# Altium schematic symbol library WE-PD2A_4532.SchLib: 20 symbols
Pins are listed as number, name and electrical type; pins without a type are passive.

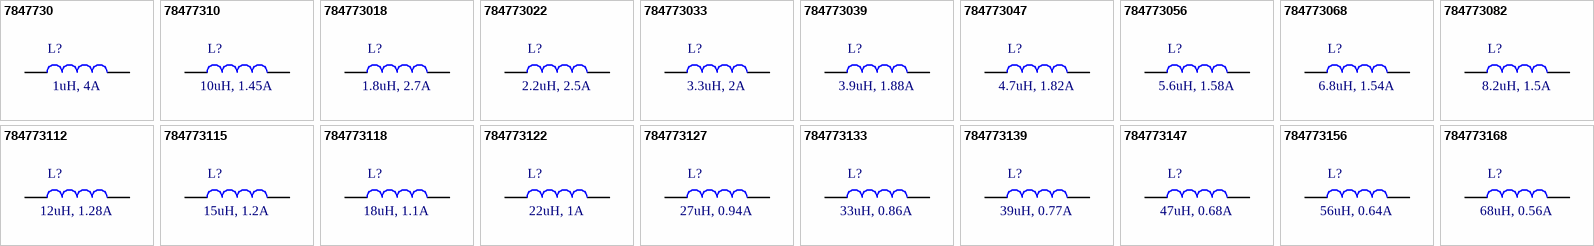
[diagram p0: symbols 7847730 to 784773168]

## 7847730
designator L?, comment 1uH, 4A
WE-PD2A SMT Power Inductor, size 4532, 1uH, 4A; Manufacturer Part Number: 7847730; Manufacturer: Wurth Elektronik; DC Resistance max.: 0.049Ohm; Saturation Current: 5.72A; Self Resonant Frequency: 110MHz; DC Resistance typ.: 0.014Ohm; Rated Voltage: 80VDC; ComponentLink1Description: Manufacturer; ComponentLink1URL: http://www.we-online.de; ComponentLink2Description: Datasheet; ComponentLink2URL: https://www.we-online.com/catalog/datasheet/7847730.pdf; Published Date: May 2020; Rated Current: 4A; Inductance: 1uH; Operating Temperature: -40 to +125degC; Mounting Technology: SMT; Packaging: Tape and Reel; Size: 4532; Supplier 2 Name: Digi-Key; Supplier 2 SN: 732-6803-2-ND; Supplier 2 URL: https://www.digikey.com/en/products/detail/w%C3%BCrth-elektronik/7847730/5168772; Supplier 1 Name: Mouser; Supplier 1 SN: 710-7847730; Supplier 1 URL: https://www.mouser.vn/ProductDetail/Wurth-Elektronik/7847730?qs=sBf%2Fb4nBSlde5F9DDjxYmQ%3D%3D; Supplier 3 Name: thegioiic; Supplier 3 SN: N/A; Supplier 3 URL: https://www.thegioiic.com/cuon-cam-dan-smd-cd43-4532-1r0-1uh-2-7a; Value: 1uH, 4A
footprint WE-PD2A_4532
pins: 1, 2

## 78477310
designator L?, comment 10uH, 1.45A
WE-PD2A SMT Power Inductor, size 4532, 10uH, 1.45A; Manufacturer Part Number: 78477310; Manufacturer: Wurth Elektronik; DC Resistance max.: 0.182Ohm; Saturation Current: 1.74A; Self Resonant Frequency: 30MHz; DC Resistance typ.: 0.118Ohm; Rated Voltage: 80VDC; ComponentLink1Description: Manufacturer; ComponentLink1URL: http://www.we-online.de; ComponentLink2Description: Datasheet; ComponentLink2URL: https://www.we-online.com/catalog/datasheet/78477310.pdf; Published Date: May 2020; Rated Current: 1.45A; Inductance: 10uH; Operating Temperature: -40 to +125degC; Mounting Technology: SMT; Packaging: Tape and Reel; Size: 4532; Supplier 2 Name: Digi-Key; Supplier 2 SN: 732-6812-2-ND; Supplier 2 URL: https://www.digikey.com/en/products/detail/w%C3%BCrth-elektronik/78477310/5168778?s=N4IgTCBcDaIOwA4Asc4GYCMAGEBdAvkA; Supplier 1 Name: Mouser; Supplier 1 SN: 710-78477310; Supplier 1 URL: https://www.mouser.vn/ProductDetail/Wurth-Elektronik/78477310?qs=sBf%2Fb4nBSldyYvbSID7ftA%3D%3D; Supplier 3 Name: thegioiic; Supplier 3 SN: N/A; Supplier 3 URL: https://www.thegioiic.com/cuon-cam-dan-smd-cd43-4532-100-10uh-1-04a; Value: 10uH, 1.45A
footprint WE-PD2A_4532
pins: 1, 2

## 784773018
designator L?, comment 1.8uH, 2.7A
WE-PD2A SMT Power Inductor, size 4532, 1.8uH, 2.7A; Manufacturer Part Number: 784773018; Manufacturer: Wurth Elektronik; DC Resistance max.: 0.064Ohm; Saturation Current: 3.6A; Self Resonant Frequency: 85MHz; DC Resistance typ.: 0.028Ohm; Rated Voltage: 80VDC; ComponentLink1Description: Manufacturer; ComponentLink1URL: http://www.we-online.de; ComponentLink2Description: Datasheet; ComponentLink2URL: https://www.we-online.com/catalog/datasheet/784773018.pdf; Published Date: May 2020; Rated Current: 2.7A; Inductance: 1.8uH; Operating Temperature: -40 to +125degC; Mounting Technology: SMT; Packaging: Tape and Reel; Size: 4532; Supplier 2 Name: Digi-Key; Supplier 2 SN: 732-6804-2-ND; Supplier 2 URL: https://www.digikey.com/en/products/detail/w%C3%BCrth-elektronik/784773018/5168841?s=N4IgTCBcDaIOwA4Asc4GYAMBGBIC6AvkA; Supplier 1 Name: Mouser; Supplier 1 SN: 710-784773018; Supplier 1 URL: https://www.mouser.vn/ProductDetail/Wurth-Elektronik/784773018?qs=sBf%2Fb4nBSleQ5H1IVXBHSg%3D%3D; Supplier 3 Name: thegioiic; Supplier 3 SN: N/A; Supplier 3 URL: N/A; Value: 1.8uH, 2.7A
footprint WE-PD2A_4532
pins: 1, 2

## 784773022
designator L?, comment 2.2uH, 2.5A
WE-PD2A SMT Power Inductor, size 4532, 2.2uH, 2.5A; Manufacturer Part Number: 784773022; Manufacturer: Wurth Elektronik; DC Resistance max.: 0.071Ohm; Saturation Current: 3.38A; Self Resonant Frequency: 74MHz; DC Resistance typ.: 0.034Ohm; Rated Voltage: 80VDC; ComponentLink1Description: Manufacturer; ComponentLink1URL: http://www.we-online.de; ComponentLink2Description: Datasheet; ComponentLink2URL: https://www.we-online.com/catalog/datasheet/784773022.pdf; Published Date: May 2020; Rated Current: 2.5A; Inductance: 2.2uH; Operating Temperature: -40 to +125degC; Mounting Technology: SMT; Packaging: Tape and Reel; Size: 4532; Supplier 2 Name: Digi-Key; Supplier 2 SN: 732-6805-2-ND; Supplier 2 URL: https://www.digikey.com/en/products/detail/w%C3%BCrth-elektronik/784773022/5168842?s=N4IgTCBcDaIOwA4Asc4GYAMYIF0C%2BQA; Supplier 1 Name: Mouser; Supplier 1 SN: 710-784773022; Supplier 1 URL: https://www.mouser.vn/ProductDetail/Wurth-Elektronik/784773022?qs=sBf%2Fb4nBSlcBBrrMBQmuMg%3D%3D; Supplier 3 Name: thegioiic; Supplier 3 SN: N/A; Supplier 3 URL: https://www.thegioiic.com/cuon-cam-dan-smd-cd43-4532-2r2-2-2uh-2-25a; Value: 2.2uH, 2.5A
footprint WE-PD2A_4532
pins: 1, 2

## 784773033
designator L?, comment 3.3uH, 2A
WE-PD2A SMT Power Inductor, size 4532, 3.3uH, 2A; Manufacturer Part Number: 784773033; Manufacturer: Wurth Elektronik; DC Resistance max.: 0.086Ohm; Saturation Current: 2.88A; Self Resonant Frequency: 55MHz; DC Resistance typ.: 0.041Ohm; Rated Voltage: 80VDC; ComponentLink1Description: Manufacturer; ComponentLink1URL: http://www.we-online.de; ComponentLink2Description: Datasheet; ComponentLink2URL: https://www.we-online.com/catalog/datasheet/784773033.pdf; Published Date: May 2020; Rated Current: 2A; Inductance: 3.3uH; Operating Temperature: -40 to +125degC; Mounting Technology: SMT; Packaging: Tape and Reel; Size: 4532; Supplier 2 Name: Digi-Key; Supplier 2 SN: 732-6806-2-ND; Supplier 2 URL: https://www.digikey.com/en/products/detail/w%C3%BCrth-elektronik/784773033/5168843?s=N4IgTCBcDaIOwA4Asc4GYAMa0gLoF8g; Supplier 1 Name: Mouser; Supplier 1 SN: 710-784773033; Supplier 1 URL: https://www.mouser.vn/ProductDetail/Wurth-Elektronik/784773033?qs=sBf%2Fb4nBSlcLzNIjutVkew%3D%3D; Supplier 3 Name: thegioiic; Supplier 3 SN: N/A; Supplier 3 URL: https://www.thegioiic.com/cuon-cam-dan-smd-cd43-4532-3r3-3-3uh-2a; Value: 3.3uH, 2A
footprint WE-PD2A_4532
pins: 1, 2

## 784773039
designator L?, comment 3.9uH, 1.88A
WE-PD2A SMT Power Inductor, size 4532, 3.9uH, 1.88A; Manufacturer Part Number: 784773039; Manufacturer: Wurth Elektronik; DC Resistance max.: 0.094Ohm; Saturation Current: 2.57A; Self Resonant Frequency: 50MHz; DC Resistance typ.: 0.054Ohm; Rated Voltage: 80VDC; ComponentLink1Description: Manufacturer; ComponentLink1URL: http://www.we-online.de; ComponentLink2Description: Datasheet; ComponentLink2URL: https://www.we-online.com/catalog/datasheet/784773039.pdf; Published Date: May 2020; Rated Current: 1.88A; Inductance: 3.9uH; Operating Temperature: -40 to +125degC; Mounting Technology: SMT; Packaging: Tape and Reel; Size: 4532; Supplier 2 Name: Digi-Key; Supplier 2 SN: 732-6807-2-ND; Supplier 2 URL: https://www.digikey.com/en/products/detail/w%C3%BCrth-elektronik/784773039/5168844?s=N4IgTCBcDaIOwA4Asc4GYAMaCcIC6AvkA; Supplier 1 Name: Mouser; Supplier 1 SN: 710-784773039; Supplier 1 URL: https://www.mouser.vn/ProductDetail/Wurth-Elektronik/784773039?qs=sBf%2Fb4nBSlfKtooI5th99Q%3D%3D; Supplier 3 Name: thegioiic; Supplier 3 SN: N/A; Supplier 3 URL: N/A; Value: 3.9uH, 1.88A
footprint WE-PD2A_4532
pins: 1, 2

## 784773047
designator L?, comment 4.7uH, 1.82A
WE-PD2A SMT Power Inductor, size 4532, 4.7uH, 1.82A; Manufacturer Part Number: 784773047; Manufacturer: Wurth Elektronik; DC Resistance max.: 0.11Ohm; Saturation Current: 2.46A; Self Resonant Frequency: 45MHz; DC Resistance typ.: 0.059Ohm; Rated Voltage: 80VDC; Supply 3 Name: thegioiic; ComponentLink1Description: Manufacturer; ComponentLink1URL: http://www.we-online.de; ComponentLink2Description: Datasheet; ComponentLink2URL: https://www.we-online.com/catalog/datasheet/784773047.pdf; Published Date: May 2020; Rated Current: 1.82A; Inductance: 4.7uH; Operating Temperature: -40 to +125degC; Mounting Technology: SMT; Packaging: Tape and Reel; Size: 4532; Supplier 2 Name: Digi-Key; Supplier 2 SN: 732-6808-2-ND; Supplier 2 URL: https://www.digikey.com/en/products/detail/w%C3%BCrth-elektronik/784773047/5168845?s=N4IgTCBcDaIOwA4Asc4GYAMKQF0C%2BQA; Supplier 1 Name: Mouser; Supplier 1 SN: 710-784773047; Supplier 1 URL: https://www.mouser.vn/ProductDetail/Wurth-Elektronik/784773047?qs=sBf%2Fb4nBSlexMu59FZ%252B%2F%2Fw%3D%3D; Supply 3 URL: https://www.thegioiic.com/cuon-cam-dan-smd-cd43-4532-4r7-4-7uh-1-62a; Supplier 3 Name: thegioiic; Supplier 3 SN: N/A; Supplier 3 URL: N/A; Value: 4.7uH, 1.82A
footprint WE-PD2A_4532
pins: 1, 2

## 784773056
designator L?, comment 5.6uH, 1.58A
WE-PD2A SMT Power Inductor, size 4532, 5.6uH, 1.58A; Manufacturer Part Number: 784773056; Manufacturer: Wurth Elektronik; DC Resistance max.: 0.126Ohm; Saturation Current: 2.43A; Self Resonant Frequency: 40MHz; DC Resistance typ.: 0.069Ohm; Rated Voltage: 80VDC; ComponentLink1Description: Manufacturer; ComponentLink1URL: http://www.we-online.de; ComponentLink2Description: Datasheet; ComponentLink2URL: https://www.we-online.com/catalog/datasheet/784773056.pdf; Published Date: May 2020; Rated Current: 1.58A; Inductance: 5.6uH; Operating Temperature: -40 to +125degC; Mounting Technology: SMT; Packaging: Tape and Reel; Size: 4532; Supplier 2 Name: Digi-Key; Supplier 2 SN: 732-6809-2-ND; Supplier 2 URL: https://www.digikey.com/en/products/detail/w%C3%BCrth-elektronik/784773056/5168846?s=N4IgTCBcDaIOwA4Asc4GYAMBWAbCAugL5A; Supplier 1 Name: Mouser; Supplier 1 SN: 710-784773056; Supplier 1 URL: https://www.mouser.vn/ProductDetail/Wurth-Elektronik/784773056?qs=sBf%2Fb4nBSlc8abp2k0EE6g%3D%3D; Supplier 3 Name: thegioiic; Supplier 3 SN: N/A; Supplier 3 URL: N/A; Value: 5.6uH, 1.58A
footprint WE-PD2A_4532
pins: 1, 2

## 784773068
designator L?, comment 6.8uH, 1.54A
WE-PD2A SMT Power Inductor, size 4532, 6.8uH, 1.54A; Manufacturer Part Number: 784773068; Manufacturer: Wurth Elektronik; DC Resistance max.: 0.131Ohm; Saturation Current: 2.1A; Self Resonant Frequency: 35MHz; DC Resistance typ.: 0.076Ohm; Rated Voltage: 80VDC; ComponentLink1Description: Manufacturer; ComponentLink1URL: http://www.we-online.de; ComponentLink2Description: Datasheet; ComponentLink2URL: https://www.we-online.com/catalog/datasheet/784773068.pdf; Published Date: May 2020; Rated Current: 1.54A; Inductance: 6.8uH; Operating Temperature: -40 to +125degC; Mounting Technology: SMT; Packaging: Tape and Reel; Size: 4532; Parameter 1: *; Supplier 2 Name: Digi-Key; Supplier 2 SN: 732-6810-2-ND; Supplier 2 URL: https://www.digikey.com/en/products/detail/w%C3%BCrth-elektronik/784773068/5168847?s=N4IgTCBcDaIOwA4Asc4GYAMA2BIC6AvkA; Supplier 1 Name: Mouser; Supplier 1 SN: 710-784773068; Supplier 1 URL: https://www.mouser.vn/ProductDetail/Wurth-Elektronik/784773068?qs=sBf%2Fb4nBSlcnXmzECz8Epw%3D%3D; Supplier 3 Name: thegioiic; Supplier 3 SN: N/A; Supplier 3 URL: https://www.thegioiic.com/cuon-cam-dan-smd-cd43-4532-6r8-6-8uh-1-43a; Value: 6.8uH, 1.54A
footprint WE-PD2A_4532
pins: 1, 2

## 784773082
designator L?, comment 8.2uH, 1.5A
WE-PD2A SMT Power Inductor, size 4532, 8.2uH, 1.5A; Manufacturer Part Number: 784773082; Manufacturer: Wurth Elektronik; DC Resistance max.: 0.146Ohm; Saturation Current: 1.8A; Self Resonant Frequency: 30MHz; DC Resistance typ.: 0.116Ohm; Rated Voltage: 80VDC; ComponentLink1Description: Manufacturer; ComponentLink1URL: http://www.we-online.de; ComponentLink2Description: Datasheet; ComponentLink2URL: https://www.we-online.com/catalog/datasheet/784773082.pdf; Published Date: May 2020; Rated Current: 1.5A; Inductance: 8.2uH; Operating Temperature: -40 to +125degC; Mounting Technology: SMT; Packaging: Tape and Reel; Size: 4532; Supplier 2 Name: Digi-Key; Supplier 2 SN: 732-6811-2-ND; Supplier 2 URL: https://www.digikey.com/en/products/detail/w%C3%BCrth-elektronik/784773082/5168848?s=N4IgTCBcDaIOwA4Asc4GYAMCIF0C%2BQA; Supplier 1 Name: Mouser; Supplier 1 SN: 710-784773082; Supplier 1 URL: https://www.mouser.vn/ProductDetail/Wurth-Elektronik/784773082?qs=sBf%2Fb4nBSlcCjuVMP%252BH0Qg%3D%3D; Supplier 3 Name: thegioiic; Supplier 3 SN: N/A; Supplier 3 URL: N/A; Value: 8.2uH, 1.5A
footprint WE-PD2A_4532
pins: 1, 2

## 784773112
designator L?, comment 12uH, 1.28A
WE-PD2A SMT Power Inductor, size 4532, 12uH, 1.28A; Manufacturer Part Number: 784773112; Manufacturer: Wurth Elektronik; DC Resistance max.: 0.21Ohm; Saturation Current: 1.62A; Self Resonant Frequency: 30MHz; DC Resistance typ.: 0.156Ohm; Rated Voltage: 80VDC; ComponentLink1Description: Manufacturer; ComponentLink1URL: http://www.we-online.de; ComponentLink2Description: Datasheet; ComponentLink2URL: https://www.we-online.com/catalog/datasheet/784773112.pdf; Published Date: May 2020; Rated Current: 1.28A; Inductance: 12uH; Operating Temperature: -40 to +125degC; Mounting Technology: SMT; Packaging: Tape and Reel; Size: 4532; Supplier 2 Name: Digi-Key; Supplier 2 SN: 732-6813-2-ND; Supplier 2 URL: https://www.digikey.com/en/products/detail/w%C3%BCrth-elektronik/784773112/5168849?s=N4IgTCBcDaIOwA4Asc4GYCMGIF0C%2BQA; Supplier 1 Name: Mouser; Supplier 1 SN: 710-784773112; Supplier 1 URL: https://www.mouser.vn/ProductDetail/Wurth-Elektronik/784773112?qs=sBf%2Fb4nBSlcUWypdFvrQSg%3D%3D; Supplier 3 Name: thegioiic; Supplier 3 SN: N/A; Supplier 3 URL: N/A; Value: 12uH, 1.28A
footprint WE-PD2A_4532
pins: 1, 2

## 784773115
designator L?, comment 15uH, 1.2A
WE-PD2A SMT Power Inductor, size 4532, 15uH, 1.2A; Manufacturer Part Number: 784773115; Manufacturer: Wurth Elektronik; DC Resistance max.: 0.235Ohm; Saturation Current: 1.46A; Self Resonant Frequency: 27MHz; DC Resistance typ.: 0.204Ohm; Rated Voltage: 80VDC; ComponentLink1Description: Manufacturer; ComponentLink1URL: http://www.we-online.de; ComponentLink2Description: Datasheet; ComponentLink2URL: https://www.we-online.com/catalog/datasheet/784773115.pdf; Published Date: May 2020; Rated Current: 1.2A; Inductance: 15uH; Operating Temperature: -40 to +125degC; Mounting Technology: SMT; Packaging: Tape and Reel; Size: 4532; Supplier 2 Name: Digi-Key; Supplier 2 SN: 732-6814-2-ND; Supplier 2 URL: https://www.digikey.com/en/products/detail/w%C3%BCrth-elektronik/784773115/5168850?s=N4IgTCBcDaIOwA4Asc4GYCMGCsIC6AvkA; Supplier 1 Name: Mouser; Supplier 1 SN: 710-784773115; Supplier 1 URL: https://www.mouser.vn/ProductDetail/Wurth-Elektronik/784773115?qs=sBf%2Fb4nBSlf%252Be0gXfR1Slw%3D%3D; Supplier 3 Name: thegioiic; Supplier 3 SN: N/A; Supplier 3 URL: N/A; Value: 15uH, 1.2A
footprint WE-PD2A_4532
pins: 1, 2

## 784773118
designator L?, comment 18uH, 1.1A
WE-PD2A SMT Power Inductor, size 4532, 18uH, 1.1A; Manufacturer Part Number: 784773118; Manufacturer: Wurth Elektronik; DC Resistance max.: 0.338Ohm; Saturation Current: 1.29A; Self Resonant Frequency: 22MHz; DC Resistance typ.: 0.225Ohm; Rated Voltage: 80VDC; ComponentLink1Description: Manufacturer; ComponentLink1URL: http://www.we-online.de; ComponentLink2Description: Datasheet; ComponentLink2URL: https://www.we-online.com/catalog/datasheet/784773118.pdf; Published Date: May 2020; Rated Current: 1.1A; Inductance: 18uH; Operating Temperature: -40 to +125degC; Mounting Technology: SMT; Packaging: Tape and Reel; Size: 4532; Supplier 2 Name: Digi-Key; Supplier 2 SN: 732-6815-2-ND; Supplier 2 URL: https://www.digikey.com/en/products/detail/w%C3%BCrth-elektronik/784773118/5168851?s=N4IgTCBcDaIOwA4Asc4GYCMGEgLoF8g; Supplier 1 Name: Mouser; Supplier 1 SN: 710-784773118; Supplier 1 URL: https://www.mouser.vn/ProductDetail/Wurth-Elektronik/784773118?qs=sBf%2Fb4nBSldB4lq3T1V5tg%3D%3D; Supplier 3 Name: thegioiic; Supplier 3 SN: N/A; Supplier 3 URL: N/A; Value: 18uH, 1.1A
footprint WE-PD2A_4532
pins: 1, 2

## 784773122
designator L?, comment 22uH, 1A
WE-PD2A SMT Power Inductor, size 4532, 22uH, 1A; Manufacturer Part Number: 784773122; Manufacturer: Wurth Elektronik; DC Resistance max.: 0.37Ohm; Saturation Current: 1.22A; Self Resonant Frequency: 20MHz; DC Resistance typ.: 0.261Ohm; Rated Voltage: 80VDC; ComponentLink1Description: Manufacturer; ComponentLink1URL: http://www.we-online.de; ComponentLink2Description: Datasheet; ComponentLink2URL: https://www.we-online.com/catalog/datasheet/784773122.pdf; Published Date: May 2020; Rated Current: 1A; Inductance: 22uH; Operating Temperature: -40 to +125degC; Mounting Technology: SMT; Packaging: Tape and Reel; Size: 4532; Supplier 2 Name: Digi-Key; Supplier 2 SN: 732-6816-2-ND; Supplier 2 URL: https://www.digikey.com/en/products/detail/w%C3%BCrth-elektronik/784773122/5168852?s=N4IgTCBcDaIOwA4Asc4GYCMYIF0C%2BQA; Supplier 1 Name: Mouser; Supplier 1 SN: 710-784773122; Supplier 1 URL: https://www.mouser.vn/ProductDetail/Wurth-Elektronik/784773122?qs=sBf%2Fb4nBSlcvmW779TjjSg%3D%3D; Supplier 3 Name: thegioiic; Supplier 3 SN: N/A; Supplier 3 URL: N/A; Value: 22uH, 1A
footprint WE-PD2A_4532
pins: 1, 2

## 784773127
designator L?, comment 27uH, 0.94A
WE-PD2A SMT Power Inductor, size 4532, 27uH, 0.94A; Manufacturer Part Number: 784773127; Manufacturer: Wurth Elektronik; DC Resistance max.: 0.522Ohm; Saturation Current: 1A; Self Resonant Frequency: 17MHz; DC Resistance typ.: 0.328Ohm; Rated Voltage: 80VDC; ComponentLink1Description: Manufacturer; ComponentLink1URL: http://www.we-online.de; ComponentLink2Description: Datasheet; ComponentLink2URL: https://www.we-online.com/catalog/datasheet/784773127.pdf; Published Date: May 2020; Rated Current: 0.94A; Inductance: 27uH; Operating Temperature: -40 to +125degC; Mounting Technology: SMT; Packaging: Tape and Reel; Size: 4532; Supplier 2 Name: Digi-Key; Supplier 2 SN: 732-6817-2-ND; Supplier 2 URL: https://www.digikey.com/en/products/detail/w%C3%BCrth-elektronik/784773127/5168853?s=N4IgTCBcDaIOwA4Asc4GYCMY4gLoF8g; Supplier 1 Name: Mouser; Supplier 1 SN: 710-784773127; Supplier 1 URL: https://www.mouser.vn/ProductDetail/Wurth-Elektronik/784773127?qs=sBf%2Fb4nBSldFrOzMksw2nQ%3D%3D; Supplier 3 Name: thegioiic; Supplier 3 SN: N/A; Supplier 3 URL: N/A; Value: 27uH, 0.94A
footprint WE-PD2A_4532
pins: 1, 2

## 784773133
designator L?, comment 33uH, 0.86A
WE-PD2A SMT Power Inductor, size 4532, 33uH, 0.86A; Manufacturer Part Number: 784773133; Manufacturer: Wurth Elektronik; DC Resistance max.: 0.54Ohm; Saturation Current: 0.9A; Self Resonant Frequency: 16MHz; DC Resistance typ.: 0.37Ohm; Rated Voltage: 80VDC; ComponentLink1Description: Manufacturer; ComponentLink1URL: http://www.we-online.de; ComponentLink2Description: Datasheet; ComponentLink2URL: https://www.we-online.com/catalog/datasheet/784773133.pdf; Published Date: May 2020; Rated Current: 0.86A; Inductance: 33uH; Operating Temperature: -40 to +125degC; Mounting Technology: SMT; Packaging: Tape and Reel; Size: 4532; Supplier 2 Name: Digi-Key; Supplier 2 SN: 732-6818-2-ND; Supplier 2 URL: https://www.digikey.com/en/products/detail/w%C3%BCrth-elektronik/784773133/5168854?s=N4IgTCBcDaIOwA4Asc4GYCMa0gLoF8g; Supplier 1 Name: Mouser; Supplier 1 SN: 710-784773133; Supplier 1 URL: https://www.mouser.vn/ProductDetail/Wurth-Elektronik/784773133?qs=sBf%2Fb4nBSldLFXm7e5FBgg%3D%3D; Supplier 3 Name: thegioiic; Supplier 3 SN: N/A; Supplier 3 URL: N/A; Value: 33uH, 0.86A
footprint WE-PD2A_4532 (SMD Power Inductor, body 4.5x4mm)
pins: 1, 2

## 784773139
designator L?, comment 39uH, 0.77A
WE-PD2A SMT Power Inductor, size 4532, 39uH, 0.77A; Manufacturer Part Number: 784773139; Manufacturer: Wurth Elektronik; DC Resistance max.: 0.587Ohm; Saturation Current: 0.87A; Self Resonant Frequency: 15MHz; DC Resistance typ.: 0.418Ohm; Rated Voltage: 80VDC; ComponentLink1Description: Manufacturer; ComponentLink1URL: http://www.we-online.de; ComponentLink2Description: Datasheet; ComponentLink2URL: https://www.we-online.com/catalog/datasheet/784773139.pdf; Published Date: May 2020; Rated Current: 0.77A; Inductance: 39uH; Operating Temperature: -40 to +125degC; Mounting Technology: SMT; Packaging: Tape and Reel; Size: 4532; Supplier 2 Name: Digi-Key; Supplier 2 SN: 732-6819-2-ND; Supplier 2 URL: https://www.digikey.com/en/products/detail/w%C3%BCrth-elektronik/784773139/5168855?s=N4IgTCBcDaIOwA4Asc4GYCMaCcIC6AvkA; Supplier 1 Name: Mouser; Supplier 1 SN: 710-784773139; Supplier 1 URL: https://www.mouser.vn/ProductDetail/Wurth-Elektronik/784773139?qs=sBf%2Fb4nBSleGlFolV50CBA%3D%3D; Supplier 3 Name: thegioiic; Supplier 3 SN: N/A; Supplier 3 URL: N/A; Value: 39uH, 0.77A
footprint WE-PD2A_4532
pins: 1, 2

## 784773147
designator L?, comment 47uH, 0.68A
WE-PD2A SMT Power Inductor, size 4532, 47uH, 0.68A; Manufacturer Part Number: 784773147; Manufacturer: Wurth Elektronik; DC Resistance max.: 0.844Ohm; Saturation Current: 0.77A; Self Resonant Frequency: 12MHz; DC Resistance typ.: 0.523Ohm; Rated Voltage: 80VDC; ComponentLink1Description: Manufacturer; ComponentLink1URL: http://www.we-online.de; ComponentLink2Description: Datasheet; ComponentLink2URL: https://www.we-online.com/catalog/datasheet/784773147.pdf; Published Date: May 2020; Rated Current: 0.68A; Inductance: 47uH; Operating Temperature: -40 to +125degC; Mounting Technology: SMT; Packaging: Tape and Reel; Size: 4532; Supplier 2 Name: Digi-Key; Supplier 1 Name: Mouser; Supplier 2 SN: 732-6820-2-ND; Supplier 2 URL: https://www.digikey.com/en/products/detail/w%C3%BCrth-elektronik/784773147/5168856?s=N4IgTCBcDaIOwA4Asc4GYCMKQF0C%2BQA; Supplier 1 SN: 710-784773147; Supplier 1 URL: https://www.mouser.vn/ProductDetail/Wurth-Elektronik/784773147?qs=sBf%2Fb4nBSle9kgx4I0M%252BSA%3D%3D; Supplier 3 Name: thegioiic; Supplier 3 SN: N/A; Supplier 3 URL: N/A; Value: 47uH, 0.68A
footprint WE-PD2A_4532
pins: 1, 2

## 784773156
designator L?, comment 56uH, 0.64A
WE-PD2A SMT Power Inductor, size 4532, 56uH, 0.64A; Manufacturer Part Number: 784773156; Manufacturer: Wurth Elektronik; DC Resistance max.: 0.937Ohm; Saturation Current: 0.75A; Self Resonant Frequency: 12MHz; DC Resistance typ.: 0.714Ohm; Rated Voltage: 80VDC; ComponentLink1Description: Manufacturer; ComponentLink1URL: http://www.we-online.de; ComponentLink2Description: Datasheet; ComponentLink2URL: https://www.we-online.com/catalog/datasheet/784773156.pdf; Published Date: May 2020; Rated Current: 0.64A; Inductance: 56uH; Operating Temperature: -40 to +125degC; Mounting Technology: SMT; Packaging: Tape and Reel; Size: 4532; Supplier 2 Name: Digi-Key; Supplier 1 Name: Mouser; Supplier 2 SN: 732-6821-2-ND; Supplier 2 URL: https://www.digikey.com/en/products/detail/w%C3%BCrth-elektronik/784773156/5168857?s=N4IgTCBcDaIOwA4Asc4GYCMBWAbCAugL5A; Supplier 1 SN: 710-784773156; Supplier 1 URL: https://www.mouser.vn/ProductDetail/Wurth-Elektronik/784773156?qs=sBf%2Fb4nBSleyP3AnWTna%252BQ%3D%3D; Supplier 3 Name: thegioiic; Supplier 3 SN: N/A; Supplier 3 URL: N/A; Value: 56uH, 0.64A
footprint WE-PD2A_4532
pins: 1, 2

## 784773168
designator L?, comment 68uH, 0.56A
WE-PD2A SMT Power Inductor, size 4532, 68uH, 0.56A; Manufacturer Part Number: 784773168; Manufacturer: Wurth Elektronik; DC Resistance max.: 1.117Ohm; Saturation Current: 0.68A; Self Resonant Frequency: 11MHz; DC Resistance typ.: 0.754Ohm; Rated Voltage: 80VDC; ComponentLink1Description: Manufacturer; ComponentLink1URL: http://www.we-online.de; ComponentLink2Description: Datasheet; ComponentLink2URL: https://www.we-online.com/catalog/datasheet/784773168.pdf; Published Date: May 2020; Rated Current: 0.56A; Inductance: 68uH; Operating Temperature: -40 to +125degC; Mounting Technology: SMT; Packaging: Tape and Reel; Size: 4532; Supplier 2 Name: Digi-Key; Supplier 1 Name: Mouser; Supplier 2 SN: 732-6822-2-ND; Supplier 2 URL: https://www.digikey.com/en/products/detail/w%C3%BCrth-elektronik/784773168/5168858?s=N4IgTCBcDaIOwA4Asc4GYCMA2BIC6AvkA; Supplier 1 SN: 710-784773168; Supplier 1 URL: https://www.mouser.vn/ProductDetail/Wurth-Elektronik/784773168?qs=sBf%2Fb4nBSle9WMcPwYFP2g%3D%3D; Supplier 3 Name: thegioiic; Supplier 3 SN: N/A; Supplier 3 URL: N/A; Value: 68uH, 0.56A
footprint WE-PD2A_4532
pins: 1, 2